# Altium footprint library Footprints.PcbLib: 4 footprints
Each footprint in its own frame and in the unit in brackets; x right, y up, seen from the top. Pads: shape width x height; smd on the part's side, far side on the other; paste and mask are expansions set on the pad; w line width, h text height; cw(c..) or ccw(c..) is an arc to the next point about the centre after c.
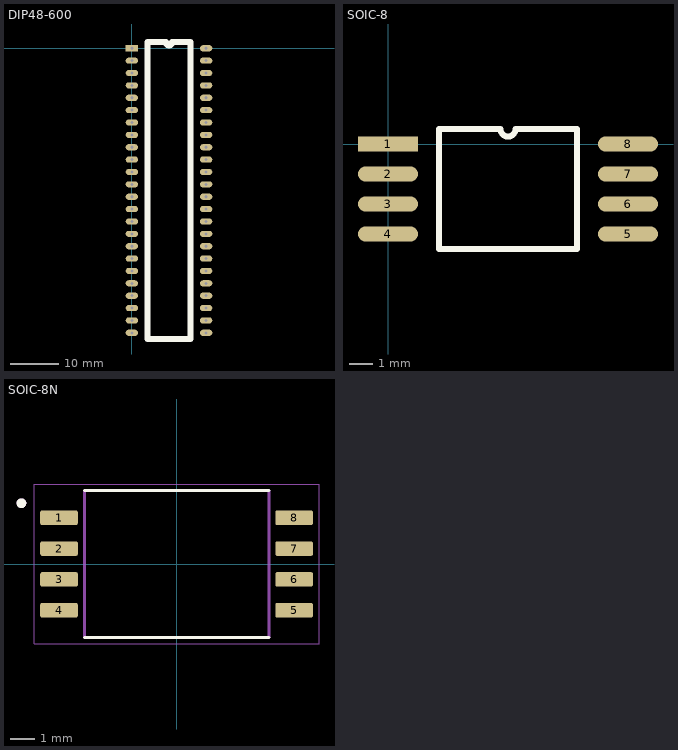
[diagram p0: the footprints below, top view; thin cyan lines are the x and y axes]

## DIP48-600 [mil]
pads (48):
  rect 100x50 hole 25: 1(0,0)
  oval 100x50 hole 25: 2(0,-100) 3(0,-200) 4(0,-300) 5(0,-400) 6(0,-500) 7(0,-600) 8(0,-700) 9(0,-800) 10(0,-900) 11(0,-1000) 12(0,-1100) 13(0,-1200) 14(0,-1300) 15(0,-1400) 16(0,-1500) 17(0,-1600) 18(0,-1700) 19(0,-1800) 20(0,-1900) 21(0,-2000) 22(0,-2100) 23(0,-2200) 24(0,-2300) 25(600,-2300) 26(600,-2200) 27(600,-2100) 28(600,-2000) 29(600,-1900) 30(600,-1800) 31(600,-1700) 32(600,-1600) 33(600,-1500) 34(600,-1400) 35(600,-1300) 36(600,-1200) 37(600,-1100) 38(600,-1000) 39(600,-900) 40(600,-800) 41(600,-700) 42(600,-600) 43(600,-500) 44(600,-400) 45(600,-300) 46(600,-200) 47(600,-100) 48(600,0)
Top Overlay:
  lines w50: 125,-2350 125,50 275,50 ccw(c300,50) 325,50 475,50 475,-2350 125,-2350

## SOIC-8 [mil]
pads (8):
  rect 100x25 smd: 1(0,0)
  oval 100x25 smd: 2(0,-50) 3(0,-100) 4(0,-150) 5(400,-150) 6(400,-100) 7(400,-50) 8(400,0)
Top Overlay:
  lines w10: 85,-175 315,-175 315,25 212.5,25 cw(c200,25) 187.5,25 85,25 85,-175

## SOIC-8N [mm]
pads (8):
  rrect25% 1.55x0.6 smd: 1(-4.84,1.905) 2(-4.84,0.635) 3(-4.84,-0.635) 4(-4.84,-1.905) 5(4.84,-1.905) 6(4.84,-0.635) 7(4.84,0.635) 8(4.84,1.905)
Top Overlay:
  circle w0.2: c-6.39,2.505 r0.1
  lines w0.127: -3.8,-3.025 3.8,-3.025 ; -3.8,3.025 3.8,3.025
Mechanical 13:
  circle w0.2: c-6.39,2.505 r0.1
  lines w0.127: -3.8,-3.025 -3.8,3.025 3.8,3.025 3.8,-3.025 -3.8,-3.025
Mechanical 15:
  lines w0.05: -5.865,-3.275 -5.865,3.275 5.865,3.275 5.865,-3.275 -5.865,-3.275
3D body "AD7403-8BRIZ-RL.STEP": height 2.65, standoff 0, extent -5.155,-2.925 5.155,2.925

## SOT-23 [mil]